# Altium footprint library Resistor1206.PcbLib: 1 footprints
Each footprint in its own frame and in the unit in brackets; x right, y up, seen from the top. Pads: shape width x height; smd on the part's side, far side on the other; paste and mask are expansions set on the pad; w line width, h text height; cw(c..) or ccw(c..) is an arc to the next point about the centre after c.
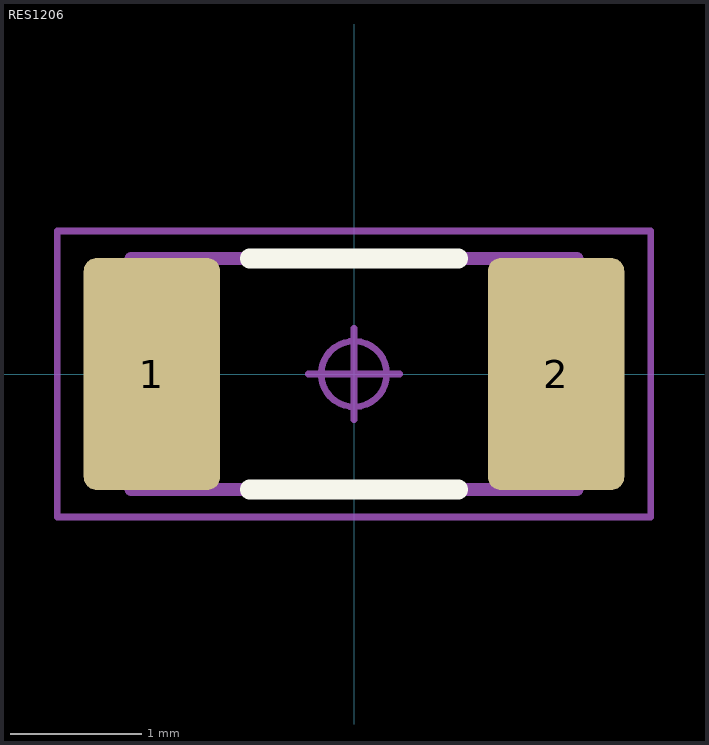
[diagram p0: the footprint, top view; thin cyan lines are the x and y axes]

## RES1206 [mm] "Resistor, Chip; 3.20 mm L X 1.60 mm W X 0.65 mm H body (Case Code: 3216 mm / 1206 mil; Package: SAMSUNGEM RC3216; Tool: Library Expert Pro 19)"
height 0.65
pads (2):
  rrect19% 1.04x1.77 smd: 1(-1.54,0) 2(1.54,0)
Top Overlay:
  lines w0.15: -0.795,-0.88 0.795,-0.88 ; -0.795,0.88 0.795,0.88
Top Assembly:
  lines w0.1: -1.7,-0.88 1.7,-0.88 1.7,0.88 -1.7,0.88 -1.7,-0.88
Top Courtyard:
  circle w0.05: c0,0 r0.25
  lines w0.05: -0.35,0 0.35,0 ; 0,-0.35 0,0.35 ; -2.26,-1.09 2.26,-1.09 2.26,1.09 -2.26,1.09 -2.26,-1.09
3D body "RESC320X160X65L40.STEP": height 0.65, standoff 0, extent -1.6,-0.8 1.6,0.8